# EAGLE library part FGPMMOPA6H (library Pinoccio)
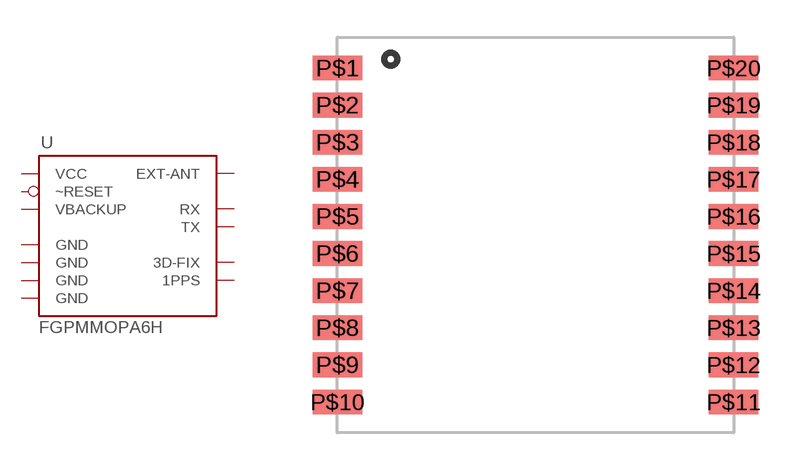
[diagram p35: symbol with the pads of FGPMMOPA6H; footprint FGPMMOPA6H]

Designator prefix -

## FGPMMOPA6H  [FGPMMOPA6H]
P$1  VCC  pwr
P$2  ~RESET
P$3  GND
P$4  VBACKUP  pwr
P$5  3D-FIX  out
P$8  GND
P$9  TX  in
P$10  RX  out
P$11  EXT-ANT
P$12  GND
P$13  GND
P$19  1PPS  out

## Footprint FGPMMOPA6H (pad centres in mm)
smd 2 x 1: P$1 0,14.75; P$2 0,13.25; P$3 0,11.75; P$4 0,10.25; P$5 0,8.75; P$6 0,7.25; P$7 0,5.75; P$8 0,4.25; P$9 0,2.75; P$10 0,1.25; P$11 16,1.25; P$12 16,2.75; P$13 16,4.25; P$14 16,5.75; P$15 16,7.25; P$16 16,8.75; P$17 16,10.25; P$18 16,11.75; P$19 16,13.25; P$20 16,14.75